# EAGLE library part HEF4794 (library Traficon)
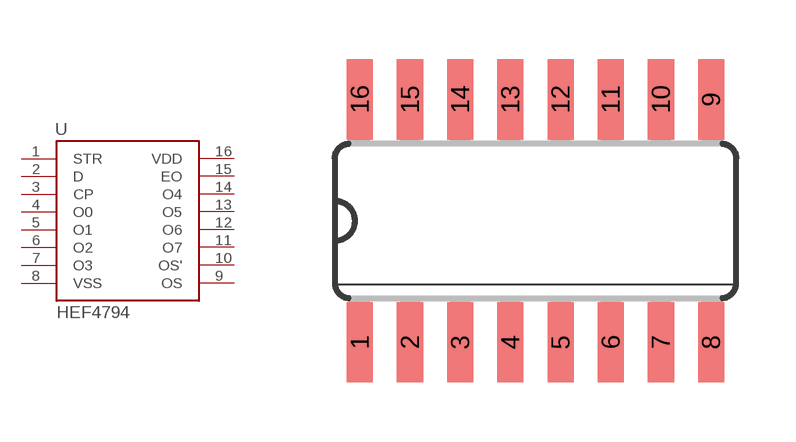
[diagram p157: symbol with the pads of SO16; footprint SO16]

Designator prefix U

## HEF4794  [SO16]
1  STR  in
2  D  in
3  CP  in
4  O0  out
5  O1  out
6  O2  out
7  O3  out
8  VSS  pwr
9  OS  out
10  OS'  out
11  O7  out
12  O6  out
13  O5  out
14  O4  out
15  EO  in
16  VDD  pwr

## Footprint SO16 (pad centres in mm)
Small Outline package 150 mil
smd 0.66 x 2.032: 1 -4.445,-3.073; 2 -3.175,-3.073; 3 -1.905,-3.073; 4 -0.635,-3.073; 5 0.635,-3.073; 6 1.905,-3.073; 7 3.175,-3.073; 8 4.445,-3.073; 9 4.445,3.073; 10 3.175,3.073; 11 1.905,3.073; 12 0.635,3.073; 13 -0.635,3.073; 14 -1.905,3.073; 15 -3.175,3.073; 16 -4.445,3.073